# Altium footprint library lead.PcbLib: 42 footprints (part 3 of 3)
Each footprint in its own frame and in the unit in brackets; x right, y up, seen from the top. Pads: shape width x height; smd on the part's side, far side on the other; paste and mask are expansions set on the pad; w line width, h text height; cw(c..) or ccw(c..) is an arc to the next point about the centre after c.
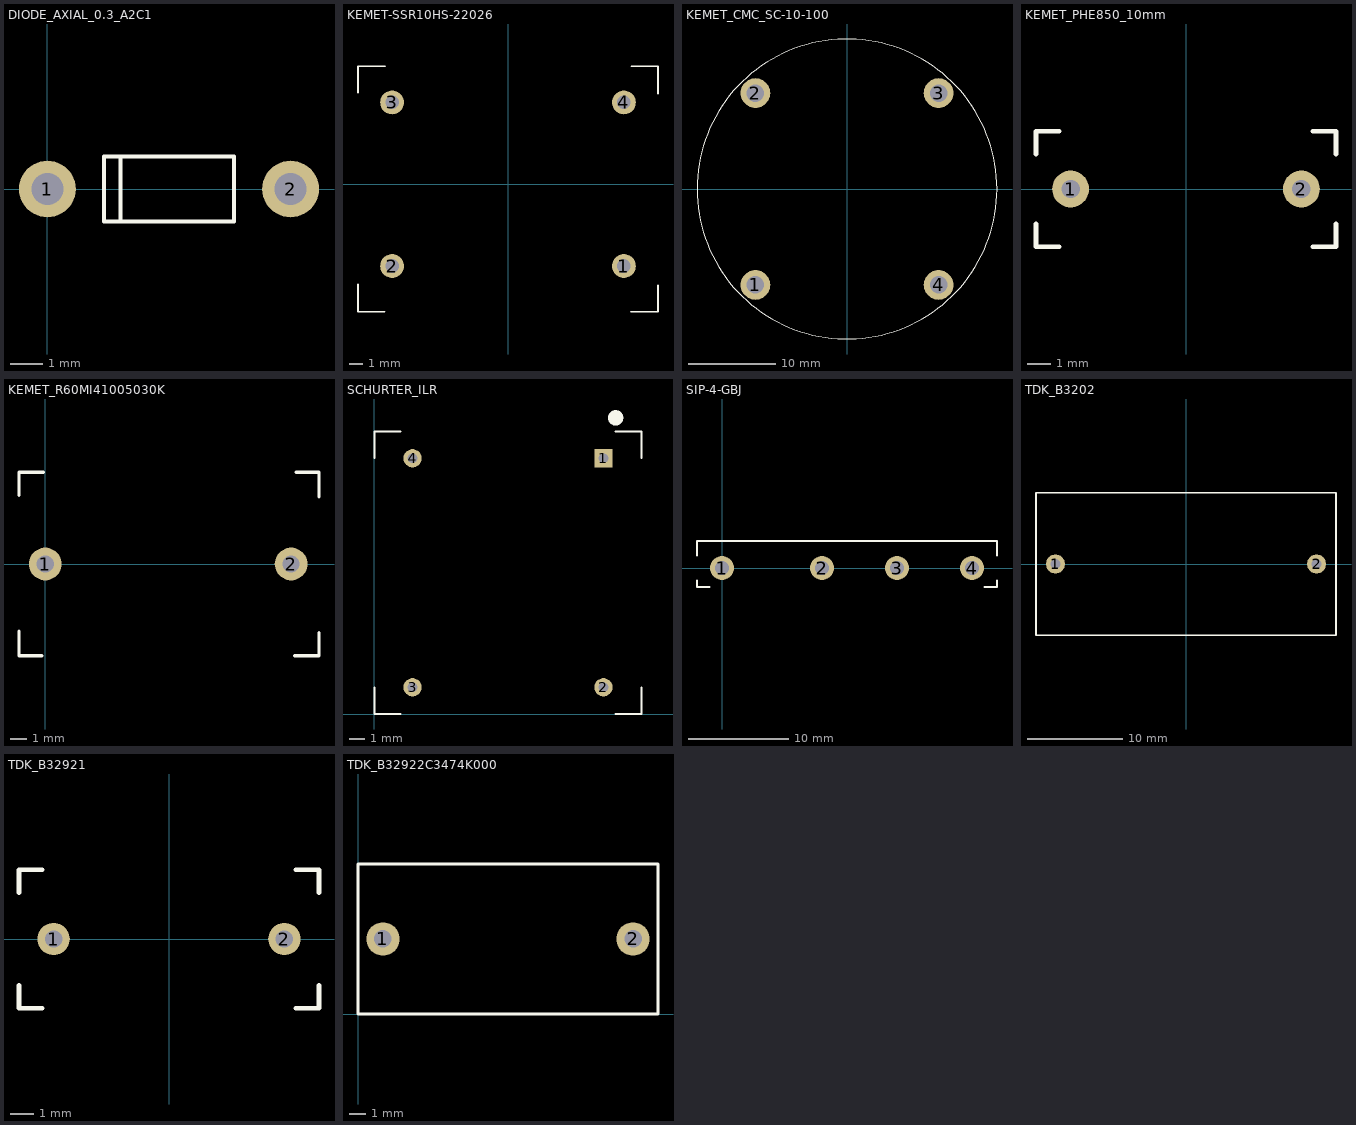
[diagram p2: the footprints below, top view; thin cyan lines are the x and y axes]

## DIODE_AXIAL_0.3_A2C1 [mil] "Axial Diode, 0.3\" spacing"
pads (2):
  round 70 hole 39.37: 1(0,0) 2(300,0)
Top Overlay:
  lines w5: 90,-40 90,40 ; 70,-40 230,-40 230,40 70,40 70,-40

## KEMET-SSR10HS-22026 [mm] "Kemet Common Mode Choke"
pads (4):
  round 1.75 hole 1: 1(8.5,-6) 2(-8.5,-6) 3(-8.5,6) 4(8.5,6)
Top Overlay:
  lines w0.127: -11,-7.35 -11,-9.35 -9.05,-9.35 ; -11,6.7 -11,8.65 -9,8.65 ; 9,-9.35 11,-9.35 11,-7.4 ; 9.05,8.65 11,8.65 11,6.65
3D body "SSR10HS-22026.step": height 13.85, standoff -3.15, extent -11,-9.35 11,8.65

## KEMET_CMC_SC-10-100 [mm] "Kemet Common Mode Choke"
pads (4):
  round 3.4 hole 2: 1(-10.5,-11) 2(-10.5,11) 3(10.5,11) 4(10.5,-11)
Top Overlay:
  circle w0.127: c0,0 r17.2

## KEMET_PHE850_10mm [mm] "KEMET PHE850 10mm Lead spacing"
pads (2):
  round 1.6 hole 0.8: 1(-5,0) 2(5,0)
Top Overlay:
  lines w0.2: -6.5,-1.5 -6.5,-2.5 -5.5,-2.5 ; -6.5,1.5 -6.5,2.5 -5.5,2.5 ; 5.5,-2.5 6.5,-2.5 6.5,-1.5 ; 5.5,2.5 6.5,2.5 6.5,1.5
3D body: height 12, standoff 0, extent -6.5,-2.5 6.5,2.5

## KEMET_R60MI41005030K [mm] "Kemet R60 series film capacitor"
pads (2):
  round 2 hole 1.05: 1(0,0) 2(15,0)
Top Overlay:
  lines w0.2: -1.6,-4.1 -1.6,-5.6 -0.2,-5.6 ; -1.6,4.2 -1.6,5.6 -0.1,5.6 ; 15.2,-5.6 16.7,-5.6 16.7,-4.2 ; 15.3,5.6 16.7,5.6 16.7,4.1
3D body "R60MI41005030K.step": height 19.1, standoff -27, extent -1.6,-5.605 16.7,5.6

## SCHURTER_ILR [mm] "Schurter ILR series Transformers"
pads (4):
  rect 1.2x1.2 hole 0.65: 1(15,16.75)
  round 1.2 hole 0.65: 2(15,1.75) 3(2.5,1.75) 4(2.5,16.75)
Top Overlay:
  circle w0.5: c15.8,19.4 r0.25
  lines w0.127: 0,1.75 0,0 1.7,0 ; 0,16.75 0,18.5 1.7,18.5 ; 15.8,0 17.5,0 17.5,1.75 ; 15.8,18.5 17.5,18.5 17.5,16.75
3D body: height 11.5, standoff 0, extent 0,0 17.5,18.5

## SIP-4-GBJ [mm] "4-Pin Single Inline Package, GBJ"
pads (4):
  round 2.4 hole 1.4: 1(0,0) 2(10,0) 3(17.5,0) 4(25,0)
Top Overlay:
  lines w0.2: -2.5,-1.25 -2.5,-1.9 -1.25,-1.9 ; -2.5,1.25 -2.5,2.7 27.5,2.7 27.5,1.25 ; 26.25,-1.9 27.5,-1.9 27.5,-1.25
3D body "GBJ.SLDPRT": height 24, standoff -13.5, extent -2.5,-1.9 27.5,2.7

## TDK_B3202 [mm] "TDK B3202 series class Y2 filter caps"
pads (2):
  round 2 hole 1.05: 1(-13.75,0) 2(13.75,0)
Top Overlay:
  lines w0.2: -15.8,-7.5 15.8,-7.5 15.8,7.5 -15.8,7.5 -15.8,-7.5
3D body: height 24.5, standoff 0, extent -15.75,-7.5 15.8,7.5

## TDK_B32921 [mm] "TDK X2 Film Cap, 10mm Lead Spacing"
pads (2):
  round 1.4 hole 0.75: 1(-5,0) 2(5,0)
Top Overlay:
  lines w0.2: -6.5,-2 -6.5,-3 -5.5,-3 ; -6.5,2 -6.5,3 -5.5,3 ; 5.5,-3 6.5,-3 6.5,-2 ; 5.5,3 6.5,3 6.5,2
3D body: height 12, standoff 0, extent -6.5,-3 6.5,3

## TDK_B32922C3474K000 [mm] "TDK Film Capacitor"
pads (2):
  round 2 hole 1.05: 1(1.5,4.5) 2(16.5,4.5)
Top Overlay:
  lines w0.2: 0,0 18,0 18,9 0,9 0,0
3D body: height 17.5, standoff 0, extent 0,0 18,9